# Altium integrated library FSC Comm Phase Locked Loop.IntLib: 11 symbols
Pins are listed as number, name and electrical type; pins without a type are passive.

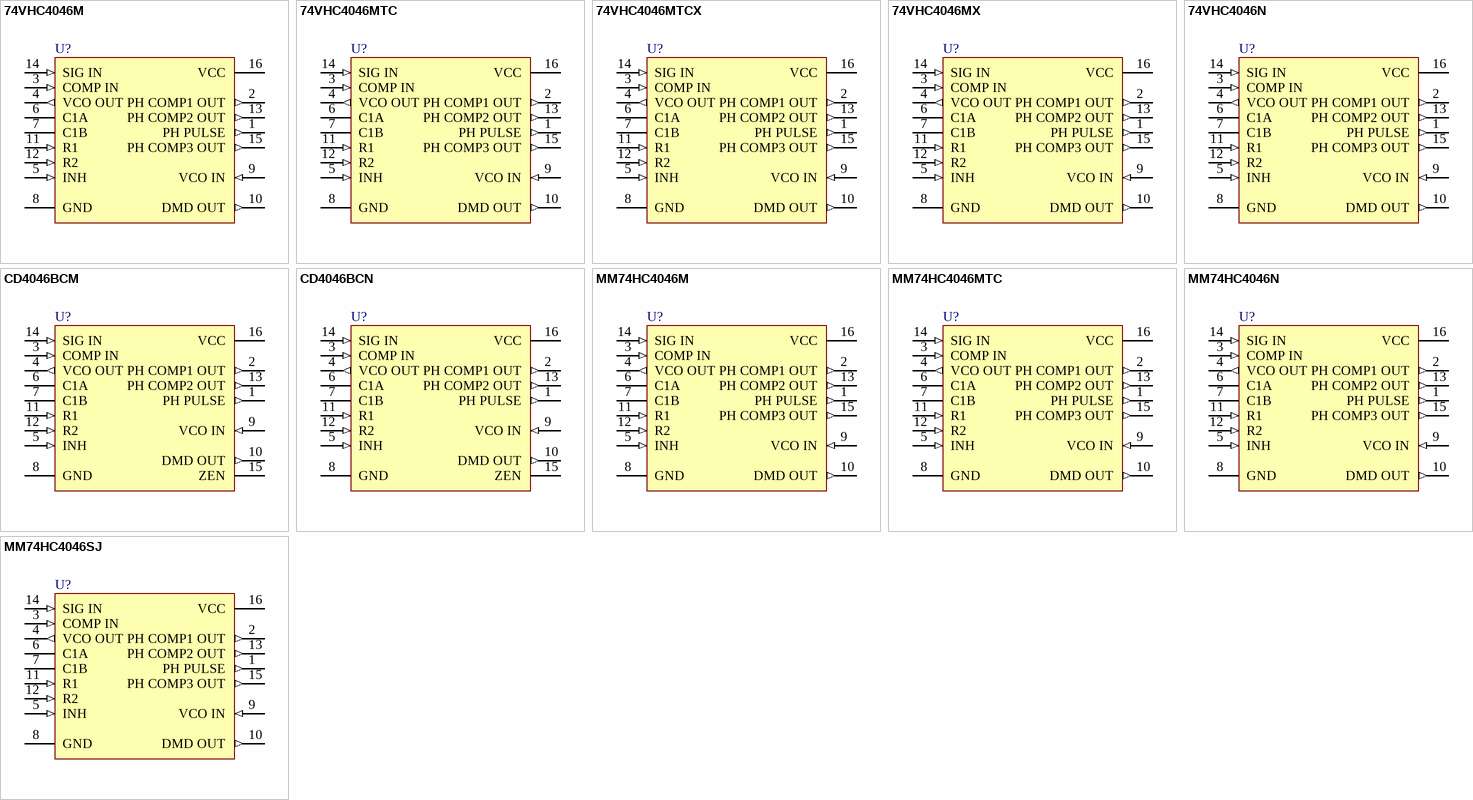
[diagram p0: symbols 74VHC4046M to MM74HC4046SJ]

## 74VHC4046M
designator U?
CMOS Phase Lock Loop; Published: 17-Jul-2002; LatestRevisionDate: 13-Apr-2006; LatestRevisionNote: IPC-7351 Footprint Added.; DatasheetVersion: Apr-1999; PackageVersion: 2000; PackageReference: M16A; Publisher: Altium Limited; PackageDescription: 16-Pin Small Outline Integrated Circuit 1.27 mm Pitch; Code_IPC: SOIC127P600-16; ComponentLink1Description: Manufacturer Link; ComponentLink1URL: http://www.fairchildsemi.com/; ComponentLink2Description: Datasheet; ComponentLink2URL: http://www.fairchildsemi.com/ds/74%2F74VHC4046.pdf
footprint M16A_N (SOIC, 16-Leads, Body 9.9x3.9mm, Pitch 1.27mm, IPC Medium Density)
footprint M16A_L (SOIC, 16-Leads, Body 9.9x3.9mm, Pitch 1.27mm, IPC High Density)
footprint M16A_M (SOIC, 16-Leads, Body 9.9x3.9mm, Pitch 1.27mm, IPC Low Density)
3D model M16A (16-Pin Small Outline Integrated Circuit 1.27 mm Pitch)
pins: 1 PH PULSE (out), 2 PH COMP1 OUT (out), 3 COMP IN (in), 4 VCO OUT (out), 5 INH (in), 6 C1A, 7 C1B, 8 GND (power), 9 VCO IN (in), 10 DMD OUT (out), 11 R1 (in), 12 R2 (in), 13 PH COMP2 OUT (out), 14 SIG IN (in), 15 PH COMP3 OUT (out), 16 VCC (power)

## 74VHC4046MTC
designator U?
CMOS Phase Lock Loop; Published: 17-Jul-2002; LatestRevisionDate: 20-Nov-2009; LatestRevisionNote: IPC-7351 Footprint Added.; DatasheetVersion: Apr-1999; PackageVersion: 2000; PackageReference: MTC16; Publisher: Altium Limited; PackageDescription: 16-Pin Thin Small Outline Package 0.65 mm Pitch; ComponentLink1Description: Manufacturer Link; ComponentLink1URL: http://www.fairchildsemi.com/; ComponentLink2Description: Datasheet; ComponentLink2URL: http://www.fairchildsemi.com/ds/74%2F74VHC4046.pdf
footprint MTC16_N (TSOP, 16-Leads, Body 5x4.4mm, Pitch 0.65mm, IPC Medium Density)
footprint MTC16_L (TSOP, 16-Leads, Body 5x4.4mm, Pitch 0.65mm, IPC High Density)
footprint MTC16_M (TSOP, 16-Leads, Body 5x4.4mm, Pitch 0.65mm, IPC Low Density)
3D model MTC16 (16-Pin Thin Small Outline Package 0.65 mm Pitch)
pins: 1 PH PULSE (out), 2 PH COMP1 OUT (out), 3 COMP IN (in), 4 VCO OUT (out), 5 INH (in), 6 C1A, 7 C1B, 8 GND (power), 9 VCO IN (in), 10 DMD OUT (out), 11 R1 (in), 12 R2 (in), 13 PH COMP2 OUT (out), 14 SIG IN (in), 15 PH COMP3 OUT (out), 16 VCC (power)

## 74VHC4046MTCX
designator U?
CMOS Phase Lock Loop; Published: 17-Jul-2002; LatestRevisionDate: 20-Nov-2009; LatestRevisionNote: IPC-7351 Footprint Added.; DatasheetVersion: Apr-1999; PackageVersion: 2000; PackageReference: MTC16; Publisher: Altium Limited; PackageDescription: 16-Pin Thin Small Outline Package 0.65 mm Pitch; ComponentLink1Description: Manufacturer Link; ComponentLink1URL: http://www.fairchildsemi.com/; ComponentLink2Description: Datasheet; ComponentLink2URL: http://www.fairchildsemi.com/ds/74%2F74VHC4046.pdf
footprint MTC16_N (TSOP, 16-Leads, Body 5x4.4mm, Pitch 0.65mm, IPC Medium Density)
footprint MTC16_L (TSOP, 16-Leads, Body 5x4.4mm, Pitch 0.65mm, IPC High Density)
footprint MTC16_M (TSOP, 16-Leads, Body 5x4.4mm, Pitch 0.65mm, IPC Low Density)
3D model MTC16 (16-Pin Thin Small Outline Package 0.65 mm Pitch)
pins: 1 PH PULSE (out), 2 PH COMP1 OUT (out), 3 COMP IN (in), 4 VCO OUT (out), 5 INH (in), 6 C1A, 7 C1B, 8 GND (power), 9 VCO IN (in), 10 DMD OUT (out), 11 R1 (in), 12 R2 (in), 13 PH COMP2 OUT (out), 14 SIG IN (in), 15 PH COMP3 OUT (out), 16 VCC (power)

## 74VHC4046MX
designator U?
CMOS Phase Lock Loop; Published: 17-Jul-2002; LatestRevisionDate: 13-Apr-2006; LatestRevisionNote: IPC-7351 Footprint Added.; DatasheetVersion: Apr-1999; PackageVersion: 2000; PackageReference: M16A; Publisher: Altium Limited; PackageDescription: 16-Pin Small Outline Integrated Circuit 1.27 mm Pitch; Code_IPC: SOIC127P600-16; ComponentLink1Description: Manufacturer Link; ComponentLink1URL: http://www.fairchildsemi.com/; ComponentLink2Description: Datasheet; ComponentLink2URL: http://www.fairchildsemi.com/ds/74%2F74VHC4046.pdf
footprint M16A_N (SOIC, 16-Leads, Body 9.9x3.9mm, Pitch 1.27mm, IPC Medium Density)
footprint M16A_L (SOIC, 16-Leads, Body 9.9x3.9mm, Pitch 1.27mm, IPC High Density)
footprint M16A_M (SOIC, 16-Leads, Body 9.9x3.9mm, Pitch 1.27mm, IPC Low Density)
3D model M16A (16-Pin Small Outline Integrated Circuit 1.27 mm Pitch)
pins: 1 PH PULSE (out), 2 PH COMP1 OUT (out), 3 COMP IN (in), 4 VCO OUT (out), 5 INH (in), 6 C1A, 7 C1B, 8 GND (power), 9 VCO IN (in), 10 DMD OUT (out), 11 R1 (in), 12 R2 (in), 13 PH COMP2 OUT (out), 14 SIG IN (in), 15 PH COMP3 OUT (out), 16 VCC (power)

## 74VHC4046N
designator U?
CMOS Phase Lock Loop; Published: 17-Jul-2002; LatestRevisionDate: 04-Mar-2005; LatestRevisionNote: Stylized 3D Model Added.; DatasheetVersion: Apr-1999; PackageVersion: 2000; PackageReference: N16E; Publisher: Altium Limited; PackageDescription: DIP, 16-Pin, Row Spacing 7.62 mm, Pitch 2.54 mm; ComponentLink1Description: Manufacturer Link; ComponentLink1URL: http://www.fairchildsemi.com/; ComponentLink2Description: Datasheet; ComponentLink2URL: http://www.fairchildsemi.com/ds/74%2F74VHC4046.pdf
footprint N16E (DIP, 16-Leads, Row Spacing 7.62mm, Pitch 2.54mm, Body 19.3x6.35mm)
3D model N16E (DIP, 16-Pin, Row Spacing 7.62 mm, Pitch 2.54 mm)
pins: 1 PH PULSE (out), 2 PH COMP1 OUT (out), 3 COMP IN (in), 4 VCO OUT (out), 5 INH (in), 6 C1A, 7 C1B, 8 GND (power), 9 VCO IN (in), 10 DMD OUT (out), 11 R1 (in), 12 R2 (in), 13 PH COMP2 OUT (out), 14 SIG IN (in), 15 PH COMP3 OUT (out), 16 VCC (power)

## CD4046BCM
designator U?
Micropower Phase-Locked Loop; Published: 17-Jul-2002; LatestRevisionDate: 13-Apr-2006; LatestRevisionNote: IPC-7351 Footprint Added.; DatasheetVersion: Jan-1999; PackageVersion: 2000; PackageReference: M16A; Publisher: Altium Limited; PackageDescription: 16-Pin Small Outline Integrated Circuit 1.27 mm Pitch; Code_IPC: SOIC127P600-16; ComponentLink1Description: Manufacturer Link; ComponentLink1URL: http://www.fairchildsemi.com/; ComponentLink2Description: Datasheet; ComponentLink2URL: http://www.fairchildsemi.com/ds/CD%2FCD4046BC.pdf
footprint M16A_N (SOIC, 16-Leads, Body 9.9x3.9mm, Pitch 1.27mm, IPC Medium Density)
footprint M16A_L (SOIC, 16-Leads, Body 9.9x3.9mm, Pitch 1.27mm, IPC High Density)
footprint M16A_M (SOIC, 16-Leads, Body 9.9x3.9mm, Pitch 1.27mm, IPC Low Density)
3D model M16A (16-Pin Small Outline Integrated Circuit 1.27 mm Pitch)
pins: 1 PH PULSE (out), 2 PH COMP1 OUT (out), 3 COMP IN (in), 4 VCO OUT (out), 5 INH (in), 6 C1A, 7 C1B, 8 GND (power), 9 VCO IN (in), 10 DMD OUT (out), 11 R1 (in), 12 R2 (in), 13 PH COMP2 OUT (out), 14 SIG IN (in), 15 ZEN, 16 VCC (power)

## CD4046BCN
designator U?
Micropower Phase-Locked Loop; Published: 17-Jul-2002; LatestRevisionDate: 04-Mar-2005; LatestRevisionNote: Stylized 3D Model Added.; DatasheetVersion: Jan-1999; PackageVersion: 2000; PackageReference: N16E; Publisher: Altium Limited; PackageDescription: DIP, 16-Pin, Row Spacing 7.62 mm, Pitch 2.54 mm; ComponentLink1Description: Manufacturer Link; ComponentLink1URL: http://www.fairchildsemi.com/; ComponentLink2Description: Datasheet; ComponentLink2URL: http://www.fairchildsemi.com/ds/CD%2FCD4046BC.pdf
footprint N16E (DIP, 16-Leads, Row Spacing 7.62mm, Pitch 2.54mm, Body 19.3x6.35mm)
3D model N16E (DIP, 16-Pin, Row Spacing 7.62 mm, Pitch 2.54 mm)
pins: 1 PH PULSE (out), 2 PH COMP1 OUT (out), 3 COMP IN (in), 4 VCO OUT (out), 5 INH (in), 6 C1A, 7 C1B, 8 GND (power), 9 VCO IN (in), 10 DMD OUT (out), 11 R1 (in), 12 R2 (in), 13 PH COMP2 OUT (out), 14 SIG IN (in), 15 ZEN, 16 VCC (power)

## MM74HC4046M
designator U?
CMOS Phase-Locked Loop; Published: 17-Jul-2002; LatestRevisionDate: 13-Apr-2006; LatestRevisionNote: IPC-7351 Footprint Added.; DatasheetVersion: Feb-1999; PackageVersion: 2000; PackageReference: M16A; Publisher: Altium Limited; PackageDescription: 16-Pin Small Outline Integrated Circuit 1.27 mm Pitch; Code_IPC: SOIC127P600-16; ComponentLink1Description: Manufacturer Link; ComponentLink1URL: http://www.fairchildsemi.com/; ComponentLink2Description: Datasheet; ComponentLink2URL: http://www.fairchildsemi.com/ds/MM%2FMM74HC4046.pdf
footprint M16A_N (SOIC, 16-Leads, Body 9.9x3.9mm, Pitch 1.27mm, IPC Medium Density)
footprint M16A_L (SOIC, 16-Leads, Body 9.9x3.9mm, Pitch 1.27mm, IPC High Density)
footprint M16A_M (SOIC, 16-Leads, Body 9.9x3.9mm, Pitch 1.27mm, IPC Low Density)
3D model M16A (16-Pin Small Outline Integrated Circuit 1.27 mm Pitch)
signal-integrity model MM74HC4046M
pins: 1 PH PULSE (out), 2 PH COMP1 OUT (out), 3 COMP IN (in), 4 VCO OUT (out), 5 INH (in), 6 C1A, 7 C1B, 8 GND (power), 9 VCO IN (in), 10 DMD OUT (out), 11 R1 (in), 12 R2 (in), 13 PH COMP2 OUT (out), 14 SIG IN (in), 15 PH COMP3 OUT (out), 16 VCC (power)

## MM74HC4046MTC
designator U?
CMOS Phase-Locked Loop; Published: 17-Jul-2002; LatestRevisionDate: 20-Nov-2009; LatestRevisionNote: IPC-7351 Footprint Added.; DatasheetVersion: Feb-1999; PackageVersion: 2000; PackageReference: MTC16; Publisher: Altium Limited; PackageDescription: 16-Pin Thin Small Outline Package 0.65 mm Pitch; ComponentLink1Description: Manufacturer Link; ComponentLink1URL: http://www.fairchildsemi.com/; ComponentLink2Description: Datasheet; ComponentLink2URL: http://www.fairchildsemi.com/ds/MM%2FMM74HC4046.pdf
footprint MTC16_N (TSOP, 16-Leads, Body 5x4.4mm, Pitch 0.65mm, IPC Medium Density)
footprint MTC16_L (TSOP, 16-Leads, Body 5x4.4mm, Pitch 0.65mm, IPC High Density)
footprint MTC16_M (TSOP, 16-Leads, Body 5x4.4mm, Pitch 0.65mm, IPC Low Density)
3D model MTC16 (16-Pin Thin Small Outline Package 0.65 mm Pitch)
signal-integrity model MM74HC4046MTC
pins: 1 PH PULSE (out), 2 PH COMP1 OUT (out), 3 COMP IN (in), 4 VCO OUT (out), 5 INH (in), 6 C1A, 7 C1B, 8 GND (power), 9 VCO IN (in), 10 DMD OUT (out), 11 R1 (in), 12 R2 (in), 13 PH COMP2 OUT (out), 14 SIG IN (in), 15 PH COMP3 OUT (out), 16 VCC (power)

## MM74HC4046N
designator U?
CMOS Phase-Locked Loop; Published: 17-Jul-2002; LatestRevisionDate: 04-Mar-2005; LatestRevisionNote: Stylized 3D Model Added.; DatasheetVersion: Feb-1999; PackageVersion: 2000; PackageReference: N16E; Publisher: Altium Limited; PackageDescription: DIP, 16-Pin, Row Spacing 7.62 mm, Pitch 2.54 mm; ComponentLink1Description: Manufacturer Link; ComponentLink1URL: http://www.fairchildsemi.com/; ComponentLink2Description: Datasheet; ComponentLink2URL: http://www.fairchildsemi.com/ds/MM%2FMM74HC4046.pdf
footprint N16E (DIP, 16-Leads, Row Spacing 7.62mm, Pitch 2.54mm, Body 19.3x6.35mm)
3D model N16E (DIP, 16-Pin, Row Spacing 7.62 mm, Pitch 2.54 mm)
signal-integrity model MM74HC4046N
pins: 1 PH PULSE (out), 2 PH COMP1 OUT (out), 3 COMP IN (in), 4 VCO OUT (out), 5 INH (in), 6 C1A, 7 C1B, 8 GND (power), 9 VCO IN (in), 10 DMD OUT (out), 11 R1 (in), 12 R2 (in), 13 PH COMP2 OUT (out), 14 SIG IN (in), 15 PH COMP3 OUT (out), 16 VCC (power)

## MM74HC4046SJ
designator U?
CMOS Phase-Locked Loop; Published: 17-Jul-2002; LatestRevisionDate: 13-Apr-2006; LatestRevisionNote: IPC-7351 Footprint Added.; DatasheetVersion: Feb-1999; PackageVersion: 2000; PackageReference: M16D; Publisher: Altium Limited; PackageDescription: 16-Pin Small Outline Package 1.27 mm Pitch; ComponentLink1Description: Manufacturer Link; ComponentLink1URL: http://www.fairchildsemi.com/; ComponentLink2Description: Datasheet; ComponentLink2URL: http://www.fairchildsemi.com/ds/MM%2FMM74HC4046.pdf
footprint M16D_N (SOP, 16-Leads, Body 10.1x5.3mm, Pitch 1.27mm, IPC Medium Density)
footprint M16D_L (SOP, 16-Leads, Body 10.1x5.3mm, Pitch 1.27mm, IPC High Density)
footprint M16D_M (SOP, 16-Leads, Body 10.1x5.3mm, Pitch 1.27mm, IPC Low Density)
3D model M16D (16-Pin Small Outline Package 1.27 mm Pitch)
signal-integrity model MM74HC4046SJ
pins: 1 PH PULSE (out), 2 PH COMP1 OUT (out), 3 COMP IN (in), 4 VCO OUT (out), 5 INH (in), 6 C1A, 7 C1B, 8 GND (power), 9 VCO IN (in), 10 DMD OUT (out), 11 R1 (in), 12 R2 (in), 13 PH COMP2 OUT (out), 14 SIG IN (in), 15 PH COMP3 OUT (out), 16 VCC (power)